# Altium integrated library WE-TI Radial Leaded Wire Wound Inductor.IntLib: 113 symbols (part 2 of 2)
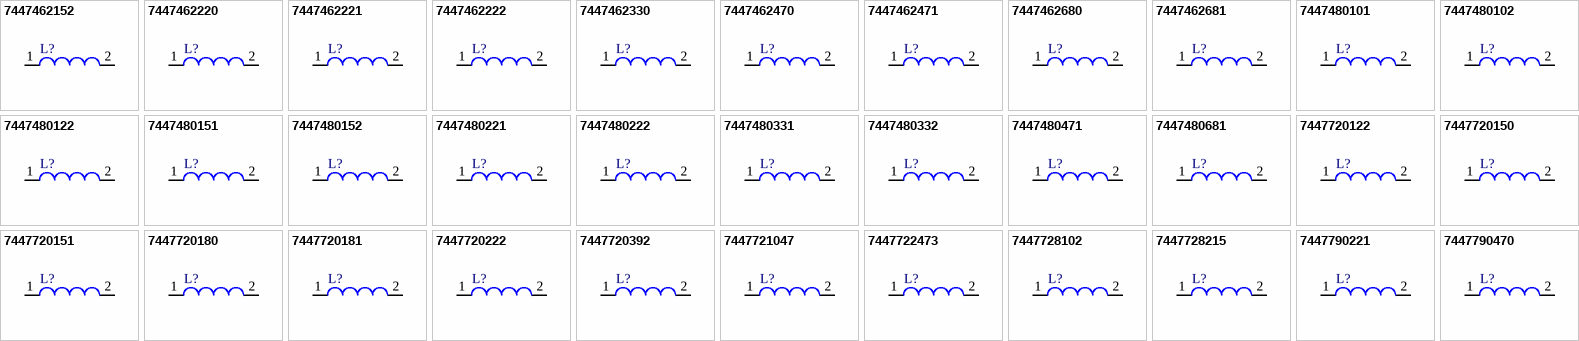
[diagram p3: symbols 7447462152 to 7447790470]

## 7447720151
designator L?
Radial Leaded Wire Wound Inductor WE-TI, L = 150 µH; PartNumber: 7447720151; DatasheetVersion: ver 1, Feb-2009; PackageReference: WE-TI-L; PackageDescription: THT Inductor, 2-Leads, Body 7.8 x 7.8 mm; ComponentLink1Description: Manufacturer URL; ComponentLink1URL: http://www.we-online.com; ComponentLink2Description: Datasheet; ComponentLink2URL: http://www.we-online.de/katalog/media/pdf/7447720151.pdf
footprint WE-TI-L (THT Inductor, 2-Leads, Body 7.8x7.8x10.0 mm)
pins: 1, 2

## 7447720180
designator L?
Radial Leaded Wire Wound Inductor WE-TI, L=18.0 µH; PartNumber: 7447720180; Inductance: 18.0 µH; PackageReference: WE-TI-L; PackageDescription: THT Inductor, 2-Leads, Body 7.8 x 7.8 mm; ComponentLink1Description: Manufacturer URL; ComponentLink1URL: http://www.we-online.com; ComponentLink2Description: Datasheet; ComponentLink2URL: http://www.we-online.de/katalog/media/pdf/7447720180.pdf
footprint WE-TI 8095 (THT Inductor, 2-Leads, Body 7,8  mm)
pins: 1, 2

## 7447720181
designator L?
Radial Leaded Wire Wound Inductor WE-TI, L = 180 µH; PartNumber: 7447720181; DatasheetVersion: ver 8, Feb-2008; PackageReference: WE-TI-L; PackageDescription: THT Inductor, 2-Leads, Body 7.8 x 7.8 mm; ComponentLink1Description: Manufacturer URL; ComponentLink1URL: http://www.we-online.com; ComponentLink2Description: Datasheet; ComponentLink2URL: http://www.we-online.de/katalog/media/pdf/7447720181.pdf
footprint WE-TI-L (THT Inductor, 2-Leads, Body 7.8x7.8x10.0 mm)
pins: 1, 2

## 7447720222
designator L?
Radial Leaded Wire Wound Inductor WE-TI, L = 2200 µH; PartNumber: 7447720222; DatasheetVersion: ver 1, Oct-2009; PackageReference: WE-TI-L; PackageDescription: THT Inductor, 2-Leads, Body 7.8 x 7.8 mm; ComponentLink1Description: Manufacturer URL; ComponentLink1URL: http://www.we-online.com; ComponentLink2Description: Datasheet; ComponentLink2URL: http://www.we-online.de/katalog/media/pdf/7447720222.pdf
footprint WE-TI-L (THT Inductor, 2-Leads, Body 7.8x7.8x10.0 mm)
pins: 1, 2

## 7447720392
designator L?
Radial Leaded Wire Wound Inductor WE-TI, L=3900 µH; PartNumber: 7447720392; Inductance: 3900 µH; PackageReference: WE-TI-L; PackageDescription: THT Inductor, 2-Leads, Body 7.8 x 7.8 mm; ComponentLink1Description: Manufacturer URL; ComponentLink1URL: http://www.we-online.com; ComponentLink2Description: Datasheet; ComponentLink2URL: http://www.we-online.de/katalog/media/pdf/7447720392.pdf
footprint WE-TI 8095 (THT Inductor, 2-Leads, Body 7,8  mm)
pins: 1, 2

## 7447721047
designator L?
Radial Leaded Wire Wound Inductor WE-TI, L = 4700 µH; PartNumber: 7447721047; DatasheetVersion: ver 3, Feb-2008; PackageReference: WE-TI-LM; PackageDescription: THT Inductor, 2-Leads, Body 7.8 x 7.8 mm; ComponentLink1Description: Manufacturer URL; ComponentLink1URL: http://www.we-online.com; ComponentLink2Description: Datasheet; ComponentLink2URL: http://www.we-online.de/katalog/media/pdf/7447721047.pdf
footprint WE-TI-LM (THT Inductor, 2-Leads, Body 7.8x7.8x7.5 mm)
pins: 1, 2

## 7447722473
designator L?
Radial Leaded Wire Wound Inductor WE-TI, L=47000 µH; PartNumber: 7447722473; PackageReference: WE-TI-L; PackageDescription: THT Inductor, 2-Leads, Body 7.8 x 7.8 mm; Inductance: 47000 µH; ComponentLink1Description: Manufacturer URL; ComponentLink1URL: http://www.we-online.com; ComponentLink2Description: Datasheet; ComponentLink2URL: http://www.we-online.de/katalog/media/pdf/7447722473.pdf
footprint WE-TI 8095 shrink tube (THT Inductor, 2-Leads, Body 8,0  mm)
pins: 1, 2

## 7447728102
designator L?
Radial Leaded Wire Wound Inductor WE-TI, L=1000 µH; PartNumber: 7447728102; Inductance: 1000 µH; PackageReference: WE-TI-L; PackageDescription: THT Inductor, 2-Leads, Body 7.8 x 7.8 mm; ComponentLink1Description: Manufacturer URL; ComponentLink1URL: http://www.we-online.com; ComponentLink2Description: Datasheet; ComponentLink2URL: http://www.we-online.de/katalog/media/pdf/7447728102.pdf
footprint WE-TI 8095 shrink tube (THT Inductor, 2-Leads, Body 8,0  mm)
pins: 1, 2

## 7447728215
designator L?
Radial Leaded Wire Wound Inductor WE-TI, L = 820 µH; PartNumber: 7447728215; DatasheetVersion: May-2006; PackageReference: WE-TI-L; PackageDescription: THT Inductor, 2-Leads, Body 7.8 x 7.8 mm; ComponentLink1Description: Manufacturer URL; ComponentLink1URL: http://www.we-online.com; ComponentLink2Description: Datasheet; ComponentLink2URL: http://www.we-online.de/katalog/media/pdf/7447728215.pdf
footprint WE-TI-L (THT Inductor, 2-Leads, Body 7.8x7.8x10.0 mm)
pins: 1, 2

## 7447790221
designator L?
Radial Leaded Wire Wound Inductor WE-TI, L=220 µH; PartNumber: 7447790221; Inductance: 22.0 µH; PackageReference: WE-TI-M; PackageDescription: THT Inductor, 2-Leads, Body 6.0 x 6.0 mm; ComponentLink1Description: Manufacturer URL; ComponentLink1URL: http://www.we-online.com; ComponentLink2Description: Datasheet; ComponentLink2URL: http://www.we-online.de/katalog/media/pdf/7447790221.pdf
footprint WE-TI-M (THT Inductor, 2-Leads, Body 6.0x6.0x6.5 mm)
pins: 1, 2

## 7447790470
designator L?
Radial Leaded Wire Wound Inductor WE-TI, L=47.0 µH; PartNumber: 7447790470; Inductance: 47.0 µH; PackageReference: WE-TI-M; PackageDescription: THT Inductor, 2-Leads, Body 6.0 x 6.0 mm; ComponentLink1Description: Manufacturer URL; ComponentLink1URL: http://www.we-online.com; ComponentLink2Description: Datasheet; ComponentLink2URL: http://www.we-online.de/katalog/media/pdf/7447790470.pdf
footprint WE-TI-M (THT Inductor, 2-Leads, Body 6.0x6.0x6.5 mm)
pins: 1, 2